# Altium footprint library PWMController.PcbLib: 37 footprints (part 3 of 3)
Each footprint in its own frame and in the unit in brackets; x right, y up, seen from the top. Pads: shape width x height; smd on the part's side, far side on the other; paste and mask are expansions set on the pad; w line width, h text height; cw(c..) or ccw(c..) is an arc to the next point about the centre after c.
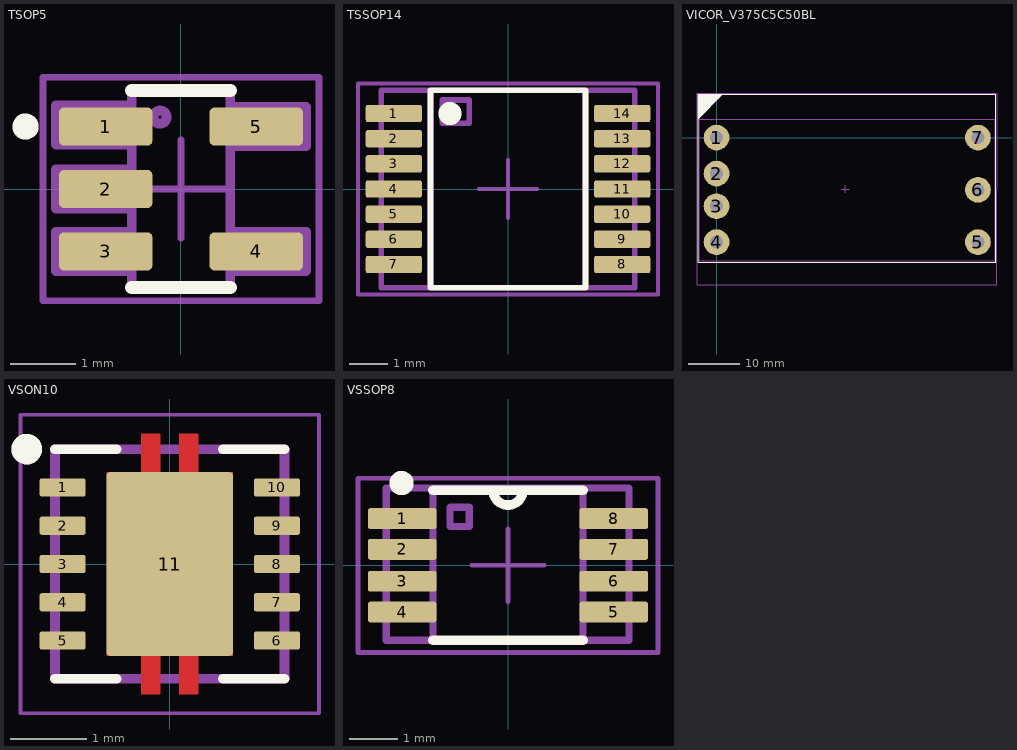
[diagram p2: the footprints below, top view; thin cyan lines are the x and y axes]

## TSOP5 [mm]
height 1.1
pads (5):
  rrect25% 1.42x0.58 smd: 1(-1.145,0.95) 2(-1.145,0) 3(-1.145,-0.95) 4(1.145,-0.95) 5(1.145,0.95)
Top Overlay:
  circle w0.2: c-2.365,0.95 r0.1
  lines w0.2: -0.75,-1.5 0.75,-1.5 ; -0.75,1.5 0.75,1.5
Mechanical 9:
  text ".Designator" at -4.7,2.5 h3.5
Mechanical 10:
  text ".Comment" at -2.9,-3.2 h2
Mechanical 11:
  circle w0.15: c-0.319,1.093 r0.1
  circle w0.15: c-0.319,1.093 r0.1
  lines w0.15: -0.75,-1.25 -1.9,-1.25 -1.9,-0.65 -0.75,-0.65 ; -0.75,-0.3 -1.9,-0.3 -1.9,0.3 -0.75,0.3 ; -0.75,0.675 -1.9,0.675 -1.9,1.275 -0.75,1.275 ; 0.75,-1.25 1.9,-1.25 1.9,-0.65 0.75,-0.65 ; 0.75,0.65 1.9,0.65 1.9,1.25 0.75,1.25 ; -0.75,-1.5 -0.75,1.5 ; -0.75,-1.5 0.75,-1.5 ; -0.75,-1.5 -0.75,1.5 ; -0.75,-1.5 0.75,-1.5 ; -0.75,1.5 0.75,1.5 ; -0.75,1.5 0.75,1.5 ; 0.75,-1.5 0.75,1.5 ; 0.75,-1.5 0.75,1.5
Mechanical 15:
  lines w0.1: -0.75,0 0.75,0 ; 0,-0.75 0,0.75 ; -2.1,-1.7 2.1,-1.7 2.1,1.7 -2.1,1.7 -2.1,-1.7
3D body "User Library-5-TSOP.step": height 1.1, standoff 0, extent -1.5,-1.55 1.5,1.55

## TSSOP14 [mm]
height 1.1
pads (14):
  rrect25% 1.45x0.45 smd: 1(-2.95,1.95) 2(-2.95,1.3) 3(-2.95,0.65) 4(-2.95,0) 5(-2.95,-0.65) 6(-2.95,-1.3) 7(-2.95,-1.95) 8(2.95,-1.95) 9(2.95,-1.3) 10(2.95,-0.65) 11(2.95,0) 12(2.95,0.65) 13(2.95,1.3) 14(2.95,1.95)
Top Overlay:
  circle w0.3: c-1.5,1.95 r0.15
  lines w0.15: -2,-2.55 2,-2.55 2,2.55 -2,2.55 -2,-2.55
Mechanical 9:
  text ".Designator" at -5.2,3.5 h3.5
Mechanical 10:
  text ".Comment" at -3.1,-4.1 h2
Mechanical 11:
  lines w0.15: -2,-2.55 -2,2.55 ; 2,-2.55 2,2.55 ; -3.275,-2.55 -3.275,2.55 3.275,2.55 3.275,-2.55 -3.275,-2.55 ; -1.7,1.7 -1,1.7 -1,2.3 -1.7,2.3 -1.7,1.7
Mechanical 15:
  lines w0.1: -0.75,0 0.75,0 ; 0,-0.75 0,0.75 ; -3.875,-2.725 3.875,-2.725 3.875,2.725 -3.875,2.725 -3.875,-2.725
3D body "User Library-TSSOP-14.STEP": height 1.2, standoff 0, extent -3.2,-2.5 3.2,2.5

## VICOR_V375C5C50BL [mm] "sda"
pads (7):
  round 5 hole 2.55: 1(0,0) 2(0,-6.99) 3(0,-13.34) 4(0,-20.32) 5(50.8,-20.32) 6(50.8,-10.16) 7(50.8,0)
Top Overlay:
  region: -3.605,3.6 1.21,8.415 -3.605,8.415
  lines w0.15: -3.605,-24.2 54.305,-24.2 54.305,8.415 -3.605,8.415 -3.605,-24.2
Mechanical 9:
  text ".Designator" at 19,11 h3.5
Mechanical 10:
  text ".Comment" at 21.2,9.2 h2
Mechanical 11:
  lines w0.15: -3.4,-23.92 54.2,-23.92 54.2,3.6 54,3.6 -3.4,3.6 -3.4,-23.92
Mechanical 15:
  lines w0.1: 24.25,-10 25.75,-10 ; 25,-10.75 25,-9.25 ; -3.8,-28.6 -3.8,8.6 54.5,8.6 54.5,-28.6 -3.8,-28.6
3D body "V375C5C50BL.STEP": height 12.8, standoff -3.2, extent -3.605,-28.415 54.305,8.415

## VSON10 [mm]
pads (11):
  rrect25% 0.6x0.24 smd mask+0: 1(-1.4,1) 2(-1.4,0.5) 3(-1.4,0) 4(-1.4,-0.5) 5(-1.4,-1) 6(1.4,-1) 7(1.4,-0.5) 8(1.4,0) 9(1.4,0.5) 10(1.4,1)
  rrect5% 1.65x2.4 smd paste-2 mask+0: 11(0,0)
Top Layer:
  region: 0.375,1.2 0.825,1.2 0.825,-1.2 0.375,-1.2 0.375,-1.7 0.125,-1.7 0.125,-1.2 -0.125,-1.2 -0.125,-1.7 -0.375,-1.7 -0.375,-1.2 -0.825,-1.2 -0.825,1.2 -0.375,1.2 -0.375,1.7 -0.125,1.7 -0.125,1.2 0.125,1.2 0.125,1.7 0.375,1.7
Top Overlay:
  circle w0.2: c-1.87,1.5 r0.1
  lines w0.127: -1.5,-1.5 -0.695,-1.5 ; -1.5,1.5 -0.695,1.5 ; 0.695,-1.5 1.5,-1.5 ; 0.695,1.5 1.5,1.5
Top Paste:
  region: -0.125,-1.7 -0.375,-1.7 -0.375,-1.36 -0.125,-1.36
  region: 0.375,-1.7 0.125,-1.7 0.125,-1.36 0.375,-1.36
  region: -0.125,1.36 -0.375,1.36 -0.375,1.7 -0.125,1.7
  region: 0.375,1.36 0.125,1.36 0.125,1.7 0.375,1.7
  region: 0.75,-1.16 -0.75,-1.16 -0.75,-0.1 0.75,-0.1
  region: 0.75,0.1 -0.75,0.1 -0.75,1.16 0.75,1.16
Top Solder:
  region: -1.03,0.81 -1.77,0.81 -1.77,1.19 -1.03,1.19
  region: -1.03,0.31 -1.77,0.31 -1.77,0.69 -1.03,0.69
  region: -1.03,-0.19 -1.77,-0.19 -1.77,0.19 -1.03,0.19
  region: -1.03,-0.69 -1.77,-0.69 -1.77,-0.31 -1.03,-0.31
  region: -1.03,-1.19 -1.77,-1.19 -1.77,-0.81 -1.03,-0.81
  region: 1.77,-1.19 1.03,-1.19 1.03,-0.81 1.77,-0.81
  region: 1.77,-0.69 1.03,-0.69 1.03,-0.31 1.77,-0.31
  region: 1.77,-0.19 1.03,-0.19 1.03,0.19 1.77,0.19
  region: 1.77,0.31 1.03,0.31 1.03,0.69 1.77,0.69
  region: 1.77,0.81 1.03,0.81 1.03,1.19 1.77,1.19
  region: 0.445,1.27 0.895,1.27 0.895,-1.27 0.445,-1.27 0.445,-1.77 0.055,-1.77 0.055,-1.27 -0.055,-1.27 -0.055,-1.77 -0.445,-1.77 -0.445,-1.27 -0.895,-1.27 -0.895,1.27 -0.445,1.27 -0.445,1.77 -0.055,1.77 -0.055,1.27 0.055,1.27 0.055,1.77 0.445,1.77
Mechanical 9:
  text ".Designator" at -5.2,3.1 h3.5
Mechanical 10:
  text ".Comment" at -2.9,-3.5 h2
Mechanical 13:
  circle w0.2: c-1.87,1.5 r0.1
  lines w0.127: -1.5,-1.5 1.5,-1.5 1.5,1.5 -1.5,1.5 -1.5,-1.5
Mechanical 15:
  lines w0.05: -1.95,-1.95 1.95,-1.95 1.95,1.95 -1.95,1.95 -1.95,-1.95
3D body "step_temp.STEP": height 1, standoff 0, extent -1.5,-1.5 1.5,1.5

## VSSOP8 [mil]
pads (8):
  rrect25% 56x17 smd: 1(-86,38) 2(-86,13) 3(-86,-13) 4(-86,-38) 5(86,-38) 6(86,-13) 7(86,13) 8(86,38)
Top Overlay:
  circle w9.84: c-86.61,66.93 r4.92
  lines w7.87: -61,-61 61,-61 ; -61,61 -12,61 ; 61,61 12,61 ; -12,61 ccw(c0,61) 12,61 ; -12,61 12,61
Mechanical 9:
  text ".Designator" at -173.23,103.35 h137.8
Mechanical 10:
  text ".Comment" at -116.14,-125.98 h78.74
Mechanical 11:
  lines w5.91: -99,-61.02 98.43,-61.02 98.43,61 ; -99,-59.06 -99,62.94 98.43,62.94 ; -61,-61 -61,61 -61,-61 ; -47.24,31.5 -47.24,47.24 -31.5,47.24 -31.5,31.5 -47.24,31.5 ; 61,-61 61,61 61,-61
Mechanical 15:
  lines w3.94: -29.53,0 29.53,0 ; 0,-29.53 0,29.53 ; -122.05,-70.87 122.05,-70.87 122.05,70.87 -122.05,70.87 -122.05,-70.87
3D body "User Library-VSSOP8 3x3 e0_65-1.step": height 43.31, standoff 0, extent -98.43,-59.06 98.42,59.06